# Altium schematic symbol library Diode_TVS_Bi.Schlib: 1 symbol
Pins are listed as number, name and electrical type; pins without a type are passive.

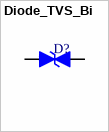
[diagram p0: symbol Diode_TVS_Bi]

## Diode_TVS_Bi
designator D?
Bidirectional TVS diode
pins: A1, A2